# EAGLE library part LM2662M (library TI-LM2662M)
Switched Capacitor Voltage Converter
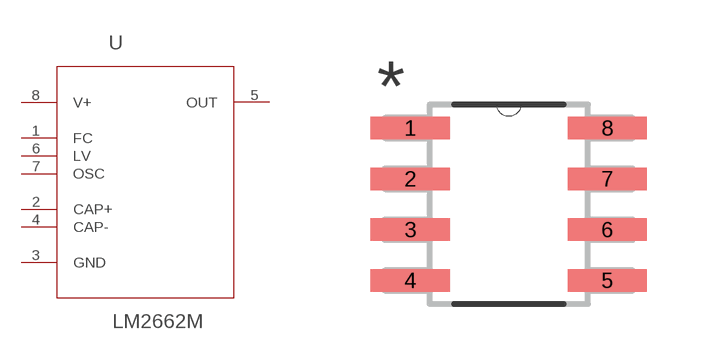
[diagram p0: symbol with the pads of SOIC127P620X175-8N; footprint SOIC127P620X175-8N]

Designator prefix U

## LM2662M (MPN: LM2662M; OC_FARNELL: 9306803; OC_NEWARK: 07B6186; PACKAGE: 8-SOIC; SUPPLIER: National Semiconductors)  [SOIC127P620X175-8N]
1  FC  in
2  CAP+  in
3  GND  pas
4  CAP-  in
5  OUT  out
6  LV  in
7  OSC  in
8  V+  pwr

## Footprint SOIC127P620X175-8N (pad centres in mm)
smd 1.981 x 0.559: 1 -2.464,1.905; 2 -2.464,0.635; 3 -2.464,-0.635; 4 -2.464,-1.905; 5 2.464,-1.905; 6 2.464,-0.635; 7 2.464,0.635; 8 2.464,1.905